# Altium footprint library PUI_Microphone.PcbLib: 1 footprints
Each footprint in its own frame and in the unit in brackets; x right, y up, seen from the top. Pads: shape width x height; smd on the part's side, far side on the other; paste and mask are expansions set on the pad; w line width, h text height; cw(c..) or ccw(c..) is an arc to the next point about the centre after c.
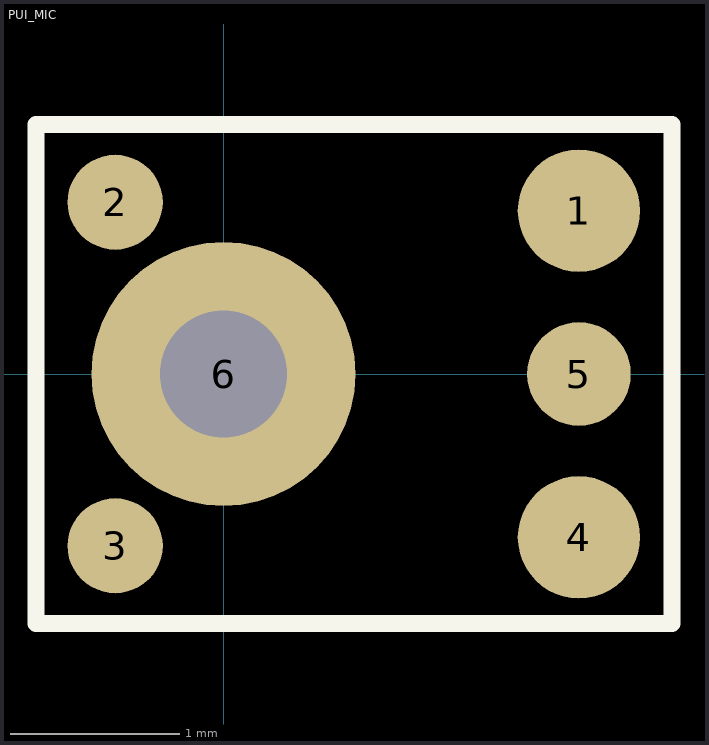
[diagram p0: the footprint, top view; thin cyan lines are the x and y axes]

## PUI_MIC [mm]
height 1.1
pads (6):
  round 0.723 smd: 1(2.1,0.965) 4(2.1,-0.965)
  round 0.562 smd: 2(-0.64,1.015) 3(-0.64,-1.015)
  round 0.612 smd: 5(2.1,0)
  round 1.56 smd: 6(0,0)
via 0,0 diameter 0.96 hole 0.75
Top Overlay:
  lines w0.1: -1.109,-1.475 2.651,-1.475 2.651,1.475 -1.109,1.475 -1.109,-1.475
3D body: height 1.1, standoff 0, extent -1.109,-1.475 2.651,1.475